# Altium footprint library RFSOLUTIONS_CON-SMA-EDGE-S.PcbLib: 1 footprints
Each footprint in its own frame and in the unit in brackets; x right, y up, seen from the top. Pads: shape width x height; smd on the part's side, far side on the other; paste and mask are expansions set on the pad; w line width, h text height; cw(c..) or ccw(c..) is an arc to the next point about the centre after c.
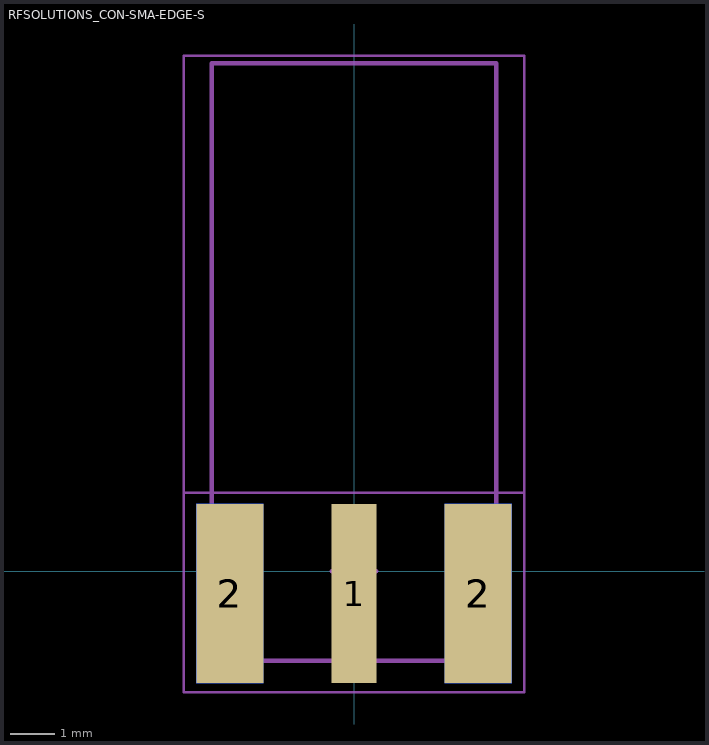
[diagram p0: the footprint, top view; thin cyan lines are the x and y axes]

## RFSOLUTIONS_CON-SMA-EDGE-S [mm]
height 6.35
pads (5):
  rect 1x4 smd: 1(0,-0.5)
  rect 1.5x4 smd: 2(-2.77,-0.5) 2(2.77,-0.5)
  rect 1.5x4 smd far side: 2(-2.77,-0.5) 2(2.77,-0.5)
Mechanical 13 (Mech13):
  lines w0.1: -3.175,-2 3.175,-2 3.175,11.33 -3.175,11.33 -3.175,-2
Mechanical 15:
  lines w0.05: -3.8,1.75 3.8,1.75 ; -3.8,-2.7 3.8,-2.7 3.8,11.5 -3.8,11.5 -3.8,-2.7
  lines w0.1: -0.5,0 0.5,0 ; 0,-0.5 0,0.5
  text "PCB Edge" at -1.648,1.967 h0.5
3D body "RFSOLUTIONS_CON-SMA-EDGE-S.step": height 3.55, standoff -2.8, extent -3.175,-2.06 3.175,11.27